# Altium schematic symbol library Sensor_SI7051-A20-IM.Schlib: 1 symbol
Pins are listed as number, name and electrical type; pins without a type are passive.

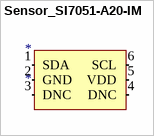
[diagram p0: symbol Sensor_SI7051-A20-IM]

## Sensor_SI7051-A20-IM
designator *
ComponentLink1Description: Datasheet; ComponentLink1URL: https://www.silabs.com/documents/public/data-sheets/Si7050-1-3-4-5-A20.pdf
footprint SON100P300X80_HS-7N (SON, 6-Leads, Body 3.00x3.00mm, Pitch 1.00mm, Thermal Pad 2.40x1.50mm, IPC Medium Density)
pins: 1 SDA, 2 GND, 3 DNC, 4 DNC, 5 VDD, 6 SCL